# Altium schematic symbol library Driver.SchLib: 21 symbols
Pins are listed as number, name and electrical type; pins without a type are passive.

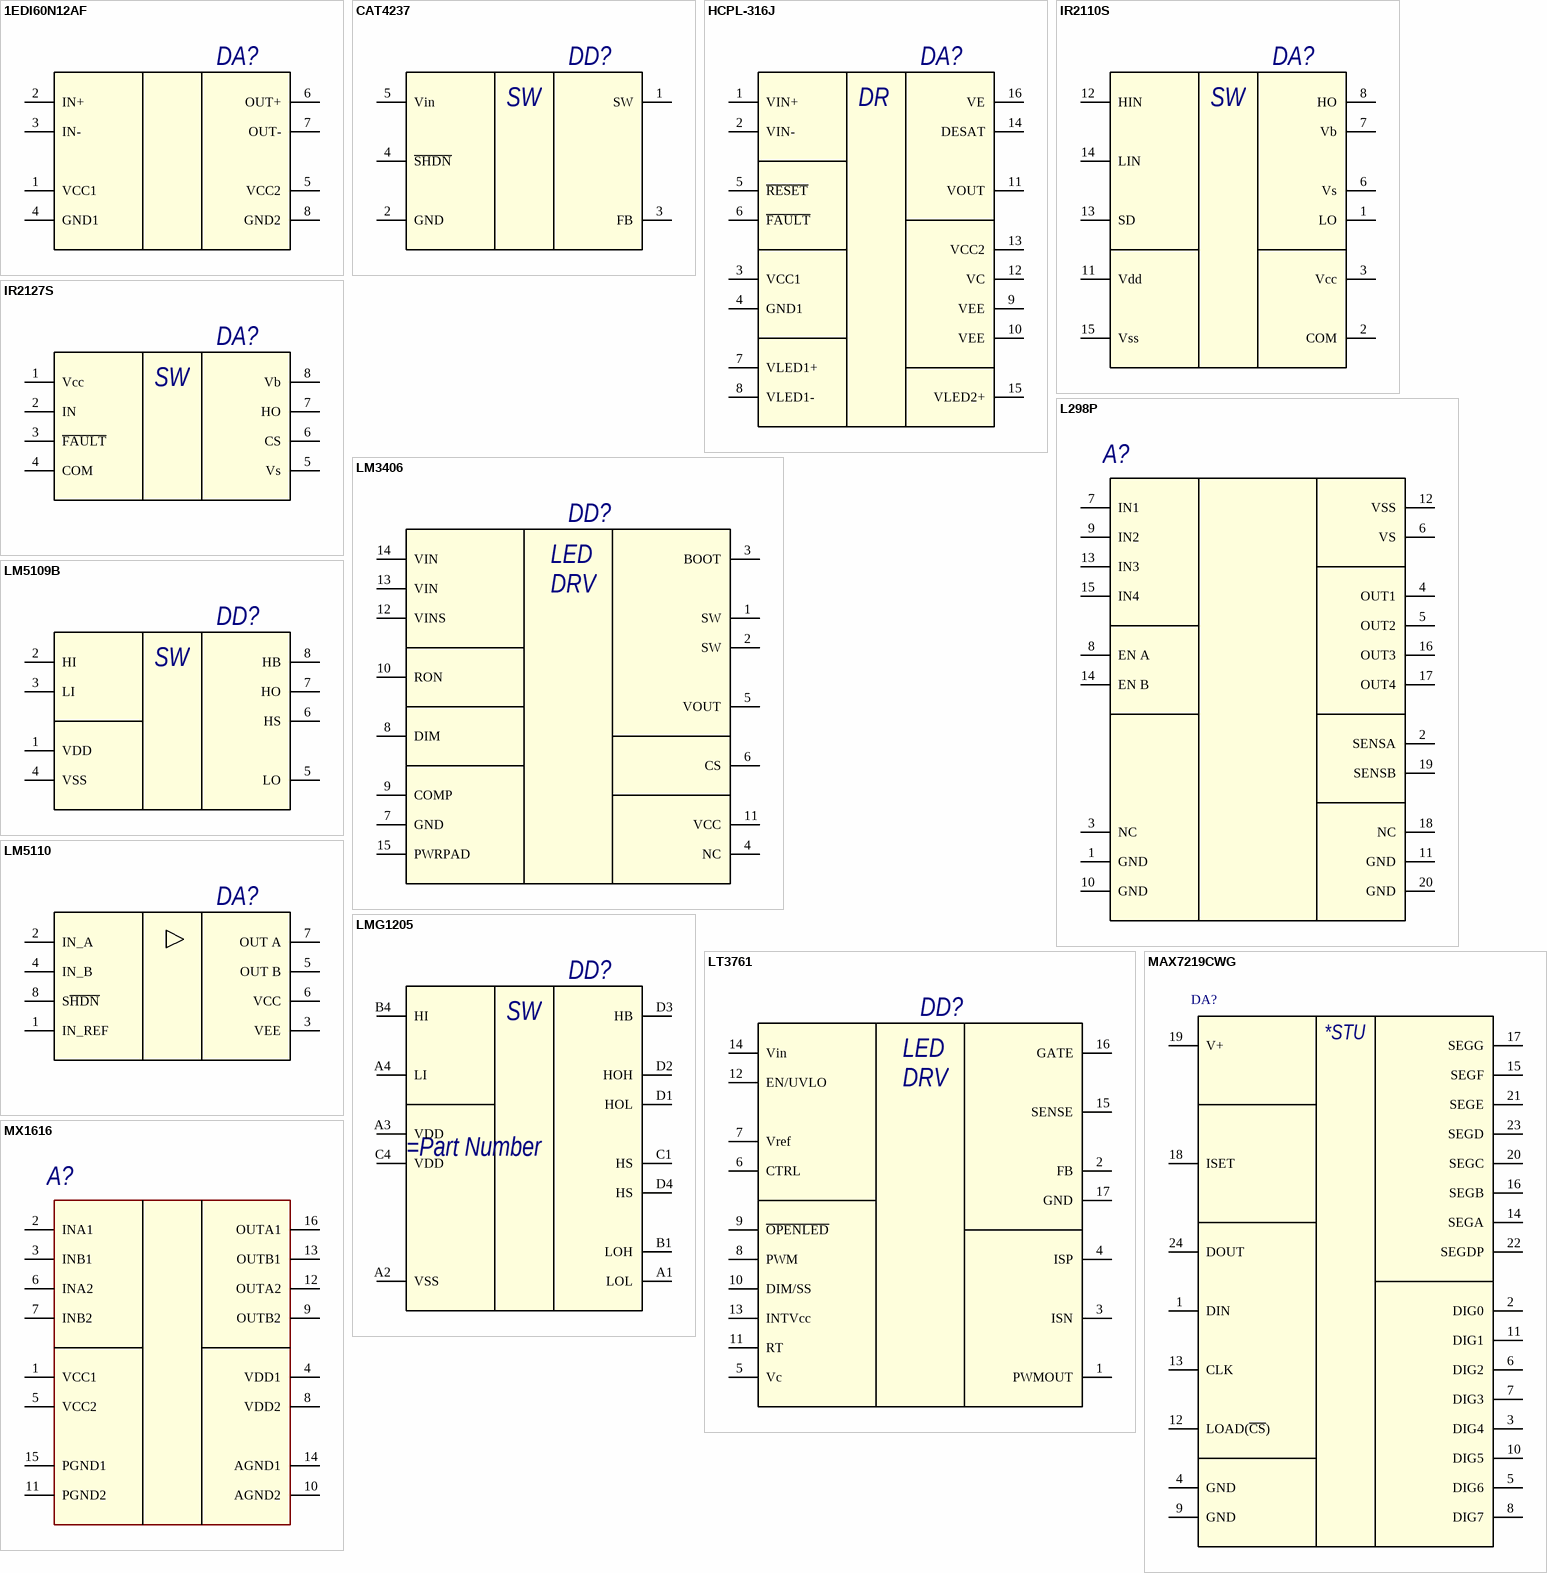
[diagram p0: symbols 1EDI60N12AF to MX1616]

## 1EDI60N12AF
designator DA?
Single Channel MOSFET Gate Driver IC
pins: 1 VCC1, 2 IN+, 3 IN-, 4 GND1, 5 VCC2, 6 OUT+, 7 OUT-, 8 GND2

## CAT4237
designator DD?
High Voltage CMOS Boost  White LED Driver
pins: 1 SW, 2 GND, 3 FB, 4 ~{SHDN}, 5 Vin

## HCPL-316J
designator DA?
2.5 Amp Gate Drive Optocoupler with Integrated
pins: 1 VIN+, 2 VIN-, 3 VCC1, 4 GND1, 5 ~{RESET}, 6 ~{FAULT}, 7 VLED1+, 8 VLED1-, 9 VEE, 10 VEE, 11 VOUT, 12 VC, 13 VCC2, 14 DESAT, 15 VLED2+, 16 VE
text: DR

## IR2110S
designator DA?
High and Low Side Driver
pins: 1 LO, 2 COM, 3 Vcc, 6 Vs, 7 Vb, 8 HO, 11 Vdd, 12 HIN, 13 SD, 14 LIN, 15 Vss
text: SW

## IR2127S
designator DA?
Gate Drivers 1 High side Driver NONINVERTING
pins: 1 Vcc, 2 IN, 3 ~{FAULT}, 4 COM, 5 Vs, 6 CS, 7 HO, 8 Vb
text: SW

## L298P
designator A?
FULL BRIDGE DC MOTOR DRIVER
pins: 1 GND, 2 SENSA, 3 NC, 4 OUT1, 5 OUT2, 6 VS, 7 IN1, 8 EN A, 9 IN2, 10 GND, 11 GND, 12 VSS, 13 IN3, 14 EN B, 15 IN4, 16 OUT3, 17 OUT4, 18 NC, 19 SENSB, 20 GND

## LM3406
designator DD?
1.5A Constant Current Buck Regulator for Driving High  Power LEDs
pins: 1 SW, 2 SW, 3 BOOT, 4 NC, 5 VOUT, 6 CS, 7 GND, 8 DIM, 9 COMP, 10 RON, 11 VCC, 12 VINS, 13 VIN, 14 VIN, 15 PWRPAD
text: LED; DRV

## LM5109B
designator DD?
High Voltage 1-A Peak Half-Bridge Gate Driver
pins: 1 VDD, 2 HI, 3 LI, 4 VSS, 5 LO, 6 HS, 7 HO, 8 HB
text: SW

## LM5110
designator DA?
Driver 5A 2-OUT Low Side Inv/Non-Inv
pins: 1 IN_REF, 2 IN_A, 3 VEE, 4 IN_B, 5 OUT B, 6 VCC, 7 OUT A, 8 S~{HDN}

## LMG1205
designator DD?
80-V, 1.2-A to 5-A, Half Bridge GaN Driver with Integrated Bootstrap Diode
pins: A1 LOL, A2 VSS, A3 VDD, A4 LI, B1 LOH, B4 HI, C1 HS, C4 VDD, D1 HOL, D2 HOH, D3 HB, D4 HS
text: SW

## LT3761
designator DD?
LED Controller with  Internal PWM Generato
pins: 1 PWMOUT, 2 FB, 3 ISN, 4 ISP, 5 Vc, 6 CTRL, 7 Vref, 8 PWM, 9 ~{OPENLED}, 10 DIM/SS, 11 RT, 12 EN/UVLO, 13 INTVcc, 14 Vin, 15 SENSE, 16 GATE, 17 GND
text: LED; DRV

## MAX7219CWG
designator DA?
Serially Interfaced, 8-Digit LED Display Drivers
pins: 1 DIN, 2 DIG0, 3 DIG4, 4 GND, 5 DIG6, 6 DIG2, 7 DIG3, 8 DIG7, 9 GND, 10 DIG5, 11 DIG1, 12 LOAD(~{CS}), 13 CLK, 14 SEGA, 15 SEGF, 16 SEGB, 17 SEGG, 18 ISET, 19 V+, 20 SEGC, 21 SEGE, 22 SEGDP, 23 SEGD, 24 DOUT
text: *STU

## MX1616
designator A?
FULL BRIDGE DC MOTOR DRIVER
pins: 1 VCC1, 2 INA1, 3 INB1, 4 VDD1, 5 VCC2, 6 INA2, 7 INB2, 8 VDD2, 9 OUTB2, 10 AGND2, 11 PGND2, 12 OUTA2, 13 OUTB1, 14 AGND1, 15 PGND1, 16 OUTA1

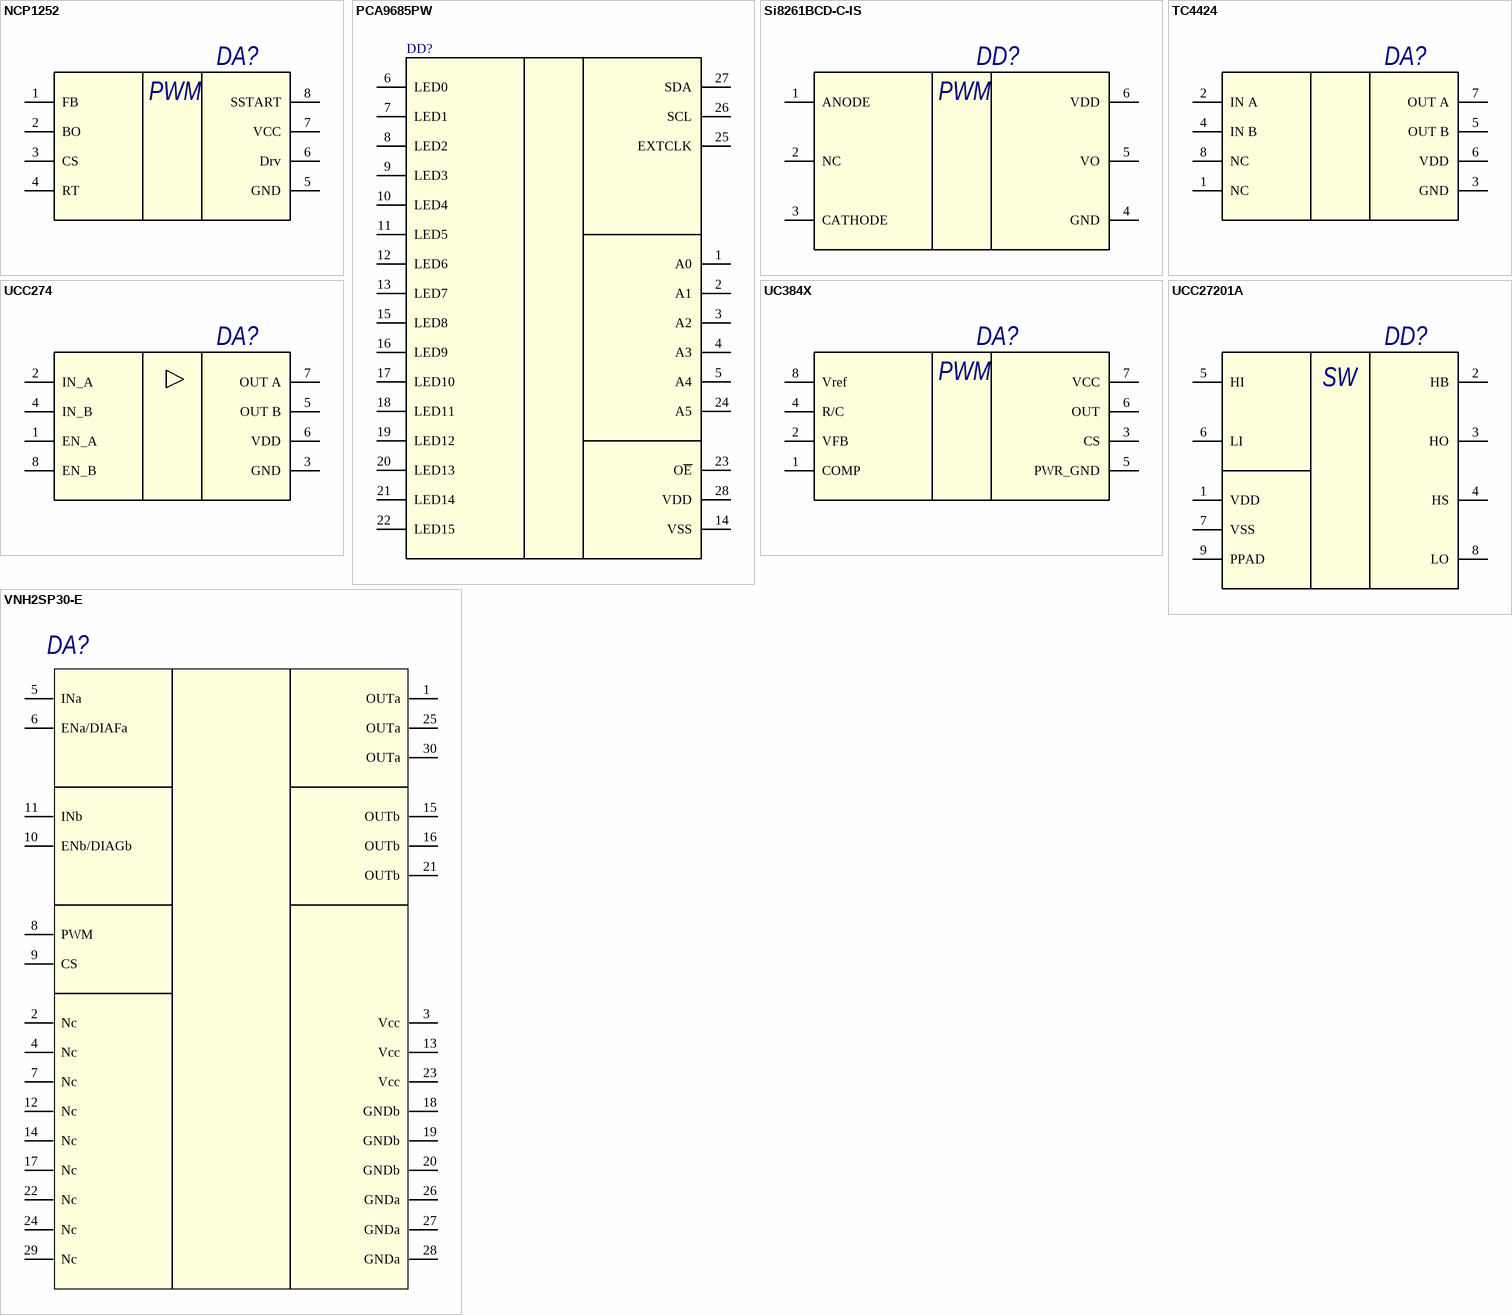
[diagram p1: symbols NCP1252 to VNH2SP30-E]

## NCP1252
designator DA?
Current Mode PWM  Controller for Forward and  Flyback Applications
pins: 1 FB, 2 BO, 3 CS, 4 RT, 5 GND, 6 Drv, 7 VCC, 8 SSTART
text: PWM

## PCA9685PW
designator DD?
Драйвер светодиода, 16 выходов
pins: 1 A0 (power), 2 A1 (power), 3 A2 (power), 4 A3 (power), 5 A4 (power), 6 LED0 (power), 7 LED1 (power), 8 LED2 (power), 9 LED3 (power), 10 LED4 (power), 11 LED5 (power), 12 LED6 (power), 13 LED7 (power), 14 VSS (power), 15 LED8 (power), 16 LED9 (power), 17 LED10 (power), 18 LED11 (power), 19 LED12 (power), 20 LED13 (power), 21 LED14 (power), 22 LED15 (power), 23 O~{E} (power), 24 A5 (power), 25 EXTCLK (power), 26 SCL (power), 27 SDA (power), 28 VDD (power)

## Si8261BCD-C-IS
designator DD?
4.0 A ISOLATED GATE DRIVERS
pins: 1 ANODE, 2 NC, 3 CATHODE, 4 GND, 5 VO, 6 VDD
text: PWM

## TC4424
designator DA?
3A Dual High-Speed Power MOSFET Drivers
pins: 1 NC, 2 IN A, 3 GND, 4 IN B, 5 OUT B, 6 VDD, 7 OUT A, 8 NC

## UC384X
designator DA?
Current Mode PWM  Controller for Forward and  Flyback Applications
pins: 1 COMP, 2 VFB, 3 CS, 4 R/C, 5 PWR_GND, 6 OUT, 7 VCC, 8 Vref
text: PWM

## UCC274
designator DA?
Dual 4-A High Speed Low-Side
pins: 1 EN_A, 2 IN_A, 3 GND, 4 IN_B, 5 OUT B, 6 VDD, 7 OUT A, 8 EN_B

## UCC27201A
designator DD?
120-V Boot, 3-A Peak, High-Frequency, High-Side and Low-Side Driver
pins: 1 VDD, 2 HB, 3 HO, 4 HS, 5 HI, 6 LI, 7 VSS, 8 LO, 9 PPAD
text: SW

## VNH2SP30-E
designator DA?
Automotive fully integrated H-bridge motor driver
pins: 1 OUTa, 2 Nc, 3 Vcc, 4 Nc, 5 INa, 6 ENa/DIAFa, 7 Nc, 8 PWM, 9 CS, 10 ENb/DIAGb, 11 INb, 12 Nc, 13 Vcc, 14 Nc, 15 OUTb, 16 OUTb, 17 Nc, 18 GNDb, 19 GNDb, 20 GNDb, 21 OUTb, 22 Nc, 23 Vcc, 24 Nc, 25 OUTa, 26 GNDa, 27 GNDa, 28 GNDa, 29 Nc, 30 OUTa